# Altium footprint library Neopixel.PcbLib: 1 footprints
Each footprint in its own frame and in the unit in brackets; x right, y up, seen from the top. Pads: shape width x height; smd on the part's side, far side on the other; paste and mask are expansions set on the pad; w line width, h text height; cw(c..) or ccw(c..) is an arc to the next point about the centre after c.
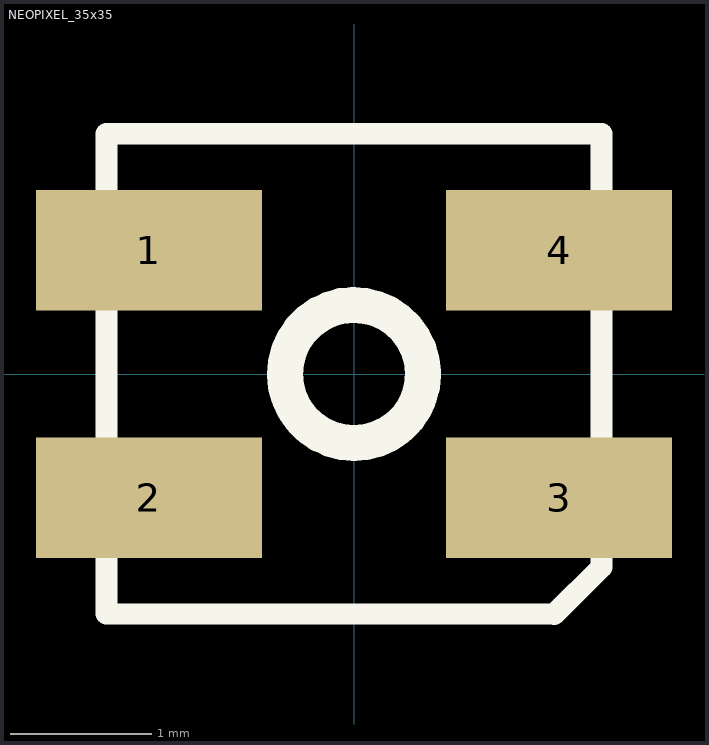
[diagram p0: the footprint, top view; thin cyan lines are the x and y axes]

## NEOPIXEL_35x35 [mm]
pads (4):
  rect 1.6x0.85 smd: 1(-1.45,0.875) 2(-1.45,-0.875) 3(1.45,-0.875) 4(1.45,0.875)
Top Overlay:
  lines w0.152: -1.75,-1.696 -1.75,1.7 1.75,1.7 1.75,-1.366 1.416,-1.7 -1.75,-1.696
  lines w0.254: 0.488,-0.005 cw(c0,0) 0.488,0.012
  text "." at 0,0 h0.1
  text "." at 1.761,-1.959 h0.3